# EAGLE library part CD4012BPWR (library KillSwitch)
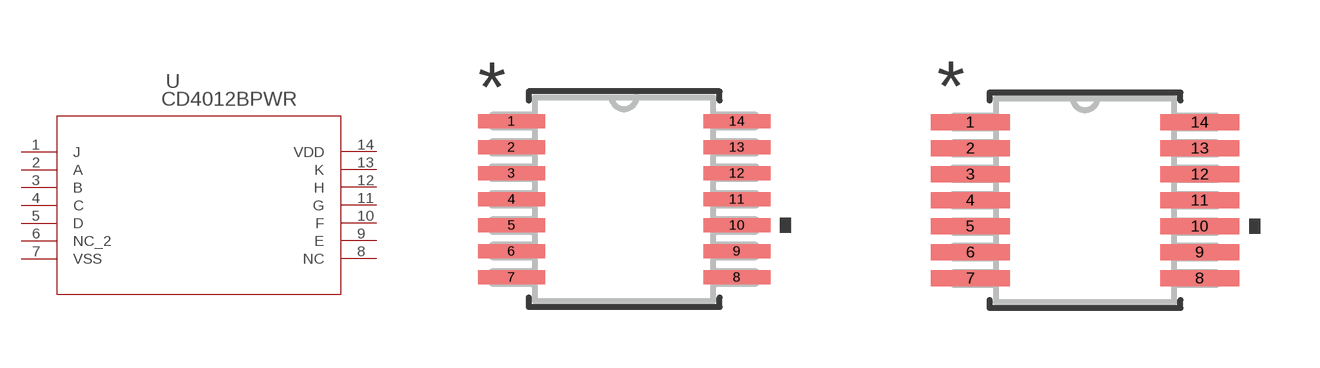
[diagram p2: symbol with the pads of PW14; footprints PW14, PW14-M]

Designator prefix U

## CD4012BPWR (MANUFACTURER_PART_NUMBER: CD4012BPWR; VENDOR: Vendor)  [PW14]
1  J  pas
2  A  pas
3  B  pas
4  C  pas
5  D  pas
6  NC_2  nc
7  VSS  pwr
8  NC  nc
9  E  pas
10  F  pas
11  G  pas
12  H  pas
13  K  pas
14  VDD  pwr

## CD4012BPWRPW14-M (MANUFACTURER_PART_NUMBER: CD4012BPWR; VENDOR: Vendor)  [PW14-M]
Pads as for PW14

## CD4012BPWRPW14-L (MANUFACTURER_PART_NUMBER: CD4012BPWR; VENDOR: Vendor)  [PW14-L]
Pads as for PW14

## Footprint PW14 (pad centres in mm)
smd 1.676 x 0.356: 1 -2.819,1.95; 2 -2.819,1.3; 3 -2.819,0.65; 4 -2.819,0; 5 -2.819,-0.65; 6 -2.819,-1.3; 7 -2.819,-1.95; 8 2.819,-1.95; 9 2.819,-1.3; 10 2.819,-0.65; 11 2.819,0; 12 2.819,0.65; 13 2.819,1.3; 14 2.819,1.95

## Footprint PW14-M (pad centres in mm)
smd 1.981 x 0.406: 1 -2.87,1.95; 2 -2.87,1.3; 3 -2.87,0.65; 4 -2.87,0; 5 -2.87,-0.65; 6 -2.87,-1.3; 7 -2.87,-1.95; 8 2.87,-1.95; 9 2.87,-1.3; 10 2.87,-0.65; 11 2.87,0; 12 2.87,0.65; 13 2.87,1.3; 14 2.87,1.95

## Footprint PW14-L (pad centres in mm)
smd 1.372 x 0.305: 1 -2.769,1.95; 2 -2.769,1.3; 3 -2.769,0.65; 4 -2.769,0; 5 -2.769,-0.65; 6 -2.769,-1.3; 7 -2.769,-1.95; 8 2.769,-1.95; 9 2.769,-1.3; 10 2.769,-0.65; 11 2.769,0; 12 2.769,0.65; 13 2.769,1.3; 14 2.769,1.95